# EAGLE library part LM22672 (library LM22672)
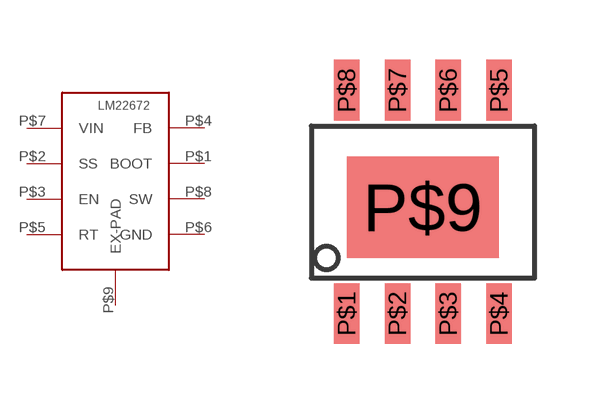
[diagram p0: symbol with the pads of LM22672; footprint LM22672]

Designator prefix -

## LM22672  [LM22672]
P$1  BOOT
P$2  SS
P$3  EN
P$4  FB
P$5  RT
P$6  GND
P$7  VIN
P$8  SW
P$9  EX-PAD

## Footprint LM22672 (pad centres in mm)
smd 0.635 x 1.524: P$1 -1.905,-2.413; P$2 -0.635,-2.413; P$3 0.635,-2.413; P$4 1.905,-2.413; P$5 1.905,3.175; P$6 0.635,3.175; P$7 -0.635,3.175; P$8 -1.905,3.175
smd 3.81 x 2.54: P$9 0,0.254